# Altium schematic symbol library X1.SchLib: 5 symbols
Pins are listed as number, name and electrical type; pins without a type are passive.

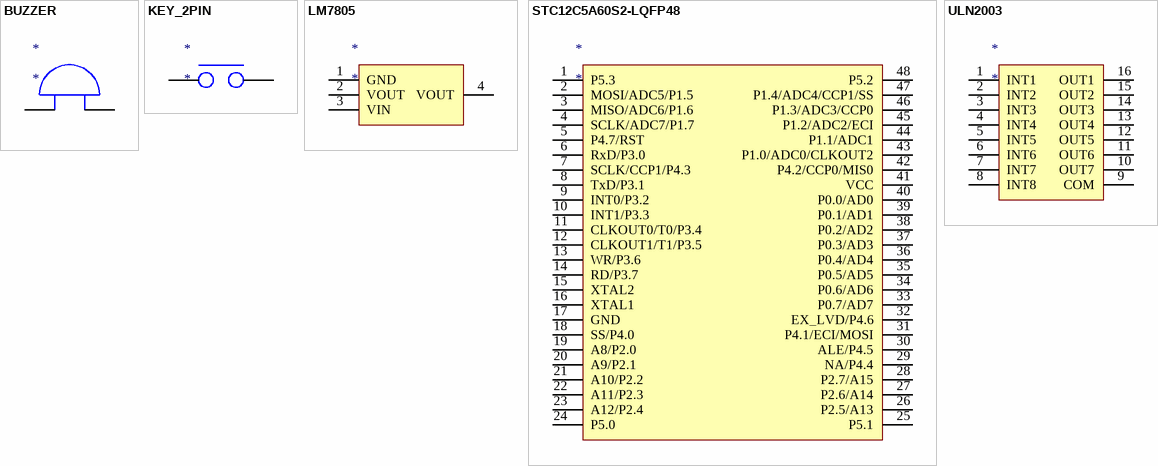
[diagram p0: symbols BUZZER to ULN2003]

## BUZZER
designator *
pins: 1, 2

## KEY_2PIN
designator *
pins: 1, 2

## LM7805
designator *
pins: 1 GND, 2 VOUT, 3 VIN, 4 VOUT

## STC12C5A60S2-LQFP48
designator *
pins: 1 P5.3, 2 MOSI/ADC5/P1.5, 3 MISO/ADC6/P1.6, 4 SCLK/ADC7/P1.7, 5 P4.7/RST, 6 RxD/P3.0, 7 SCLK/CCP1/P4.3, 8 TxD/P3.1, 9 INT0/P3.2, 10 INT1/P3.3, 11 CLKOUT0/T0/P3.4, 12 CLKOUT1/T1/P3.5, 13 WR/P3.6, 14 RD/P3.7, 15 XTAL2, 16 XTAL1, 17 GND, 18 SS/P4.0, 19 A8/P2.0, 20 A9/P2.1, 21 A10/P2.2, 22 A11/P2.3, 23 A12/P2.4, 24 P5.0, 25 P5.1, 26 P2.5/A13, 27 P2.6/A14, 28 P2.7/A15, 29 NA/P4.4, 30 ALE/P4.5, 31 P4.1/ECI/MOSI, 32 EX_LVD/P4.6, 33 P0.7/AD7, 34 P0.6/AD6, 35 P0.5/AD5, 36 P0.4/AD4, 37 P0.3/AD3, 38 P0.2/AD2, 39 P0.1/AD1, 40 P0.0/AD0, 41 VCC, 42 P4.2/CCP0/MIS0, 43 P1.0/ADC0/CLKOUT2, 44 P1.1/ADC1, 45 P1.2/ADC2/ECI, 46 P1.3/ADC3/CCP0, 47 P1.4/ADC4/CCP1/SS, 48 P5.2

## ULN2003
designator *
pins: 1 INT1, 2 INT2, 3 INT3, 4 INT4, 5 INT5, 6 INT6, 7 INT7, 8 INT8, 9 COM, 10 OUT7, 11 OUT6, 12 OUT5, 13 OUT4, 14 OUT3, 15 OUT2, 16 OUT1